# Altium integrated library NR01103ANG13-1C.IntLib: 1 symbol
Pins are listed as number, name and electrical type; pins without a type are passive.

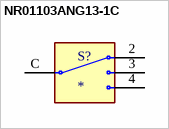
[diagram p0: symbol NR01103ANG13-1C]

## NR01103ANG13-1C
designator S?
Rotary Switch 3 Position SP3T 0.4VA (AC/DC) 28 VAC Through Hole; MF: NKK Switches; MP: NR01103ANG13-1C; SnapEDA_Link: https://www.snapeda.com/parts/NR01103ANG13-1C/NKK+Switches/view-part/?ref=snap; Package: None; Value: *; Check_prices: https://www.snapeda.com/parts/NR01103ANG13-1C/NKK+Switches/view-part/?ref=eda
footprint SW_NR01103ANG13-1C
pins: 2, 3, 4, C